# EAGLE library part ESP32_NODEMCU (library ESP32_NODEMCU)
Check availability <https://pricing.snapeda.com/parts/ESP32%20NODEMCU/AZ%20Delivery/view-part?ref=eda>
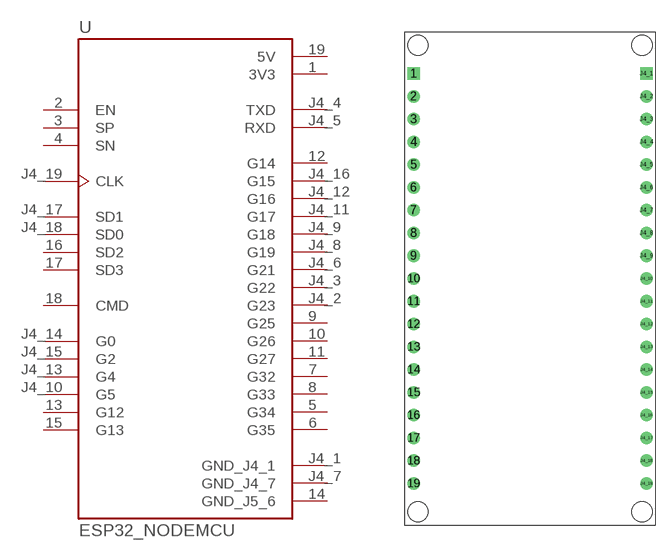
[diagram p0: symbol with the pads of MODULE_ESP32_NODEMCU; footprint MODULE_ESP32_NODEMCU]

Designator prefix U

## ESP32_NODEMCU (AVAILABILITY: Not in stock; CHECK_PRICES: https://www.snapeda.com/parts/ESP32%20NODEMCU/AZ-Delivery/view-part/?ref=eda; DESCRIPTION: NodeMCU is an open source loT platform. ESP32 is a series of low cost, low power system-on-chip (SoC) microcontrollers with integrated Wi-Fi & dual-mode Bluetooth.; MF: AZ Delivery; MP: ESP32 NODEMCU; PACKAGE: Package; PRICE: None; SNAPEDA_LINK: https://www.snapeda.com/parts/ESP32%20NODEMCU/AZ-Delivery/view-part/?ref=snap)  [MODULE_ESP32_NODEMCU]
1  3V3  pwr
2  EN  in
3  SP  in
4  SN  in
5  G34
6  G35
7  G32
8  G33
9  G25
10  G26
11  G27
12  G14
13  G12
14  GND_J5_6  pwr
15  G13
16  SD2
17  SD3
18  CMD
19  5V  pwr
J4_1  GND_J4_1  pwr
J4_2  G23
J4_3  G22
J4_4  TXD  out
J4_5  RXD  in
J4_6  G21
J4_7  GND_J4_7  pwr
J4_8  G19
J4_9  G18
J4_10  G5
J4_11  G17
J4_12  G16
J4_13  G4
J4_14  G0
J4_15  G2
J4_16  G15
J4_17  SD1
J4_18  SD0
J4_19  CLK  in

## Footprint MODULE_ESP32_NODEMCU (pad centres in mm)
drill 0.9 pad 1.35 square: 1 -13,22.86; J4_1 13,22.86
drill 0.9 pad 1.35: 2 -13,20.32; 3 -13,17.78; 4 -13,15.24; 5 -13,12.7; 6 -13,10.16; 7 -13,7.62; 8 -13,5.08; 9 -13,2.54; 10 -13,0; 11 -13,-2.54; 12 -13,-5.08; 13 -13,-7.62; 14 -13,-10.16; 15 -13,-12.7; 16 -13,-15.24; 17 -13,-17.78; 18 -13,-20.32; 19 -13,-22.86; J4_2 13,20.32; J4_3 13,17.78; J4_4 13,15.24; J4_5 13,12.7; J4_6 13,10.16; J4_7 13,7.62; J4_8 13,5.08; J4_9 13,2.54; J4_10 13,0; J4_11 13,-2.54; J4_12 13,-5.08; J4_13 13,-7.62; J4_14 13,-10.16; J4_15 13,-12.7; J4_16 13,-15.24; J4_17 13,-17.78; J4_18 13,-20.32; J4_19 13,-22.86
hole 2.25 at -12.5,-26
hole 2.25 at 12.5,-26
hole 2.25 at -12.5,26
hole 2.25 at 12.5,26